# Altium footprint library Package_TO_SOT_SMD.PcbLib: 11 footprints
Each footprint in its own frame and in the unit in brackets; x right, y up, seen from the top. Pads: shape width x height; smd on the part's side, far side on the other; paste and mask are expansions set on the pad; w line width, h text height; cw(c..) or ccw(c..) is an arc to the next point about the centre after c.
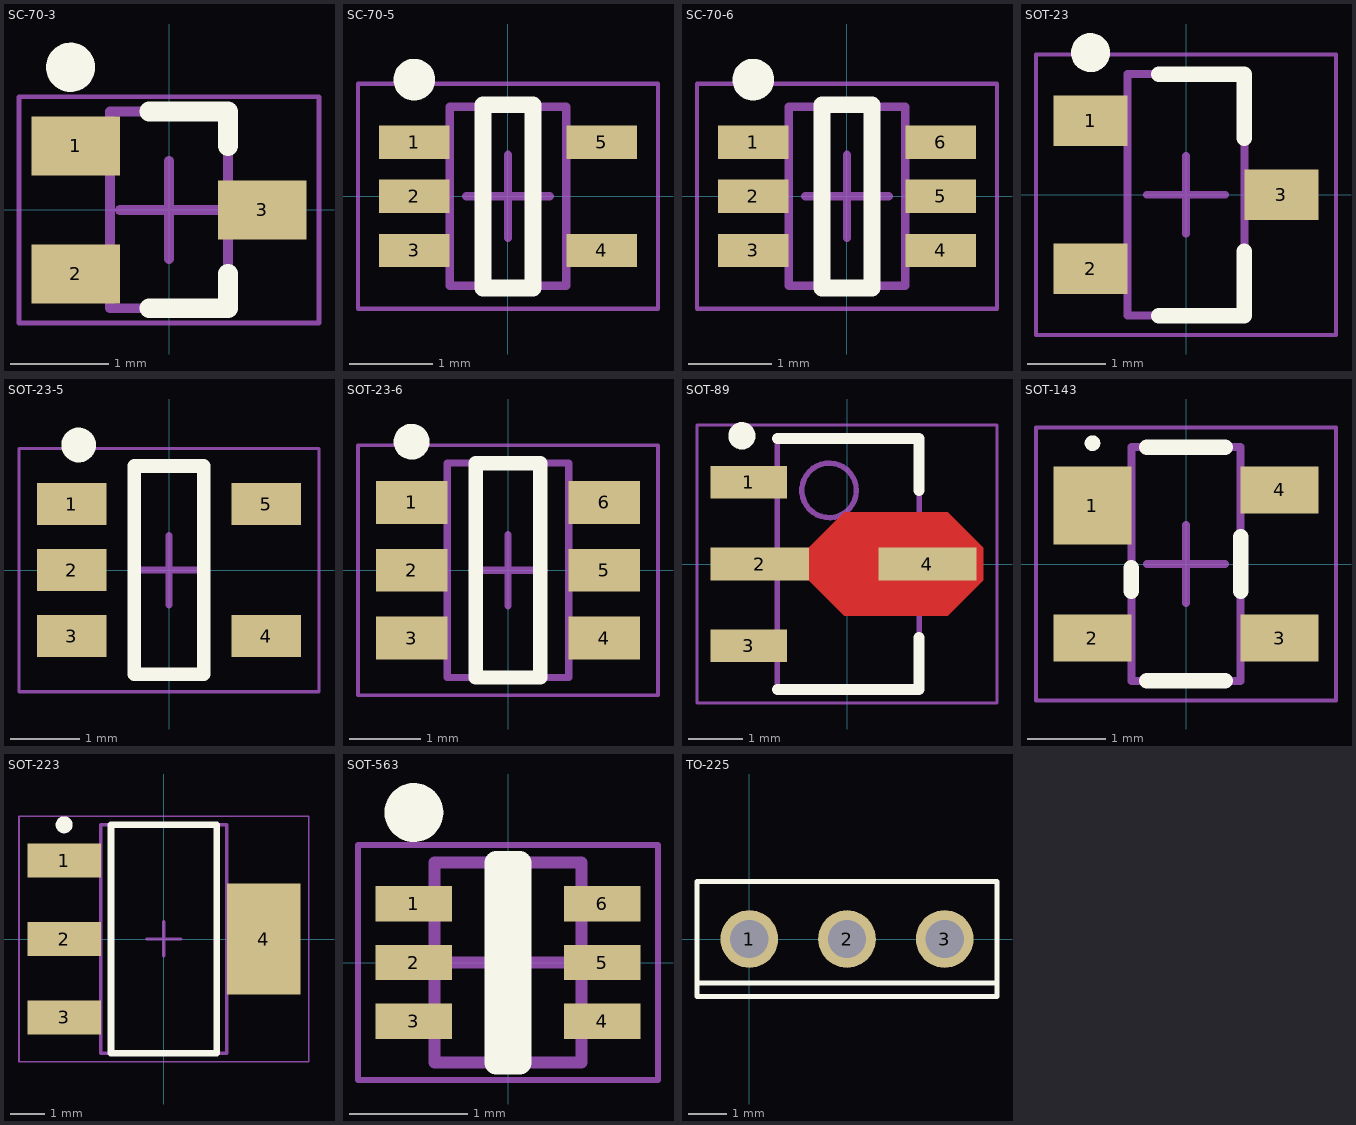
[diagram p0: the footprints below, top view; thin cyan lines are the x and y axes]

## SC-70-3 [mm] "SOTFL, 3-Leads, Body 2.00x2.20mm, Pitch 0.65mm, IPC Medium Density"
height 0.8
pads (3):
  rect 0.9x0.6 smd: 1(-0.95,0.65) 2(-0.95,-0.65) 3(0.95,0)
Top Overlay:
  circle w0.25: c-1,1.45 r0.125
  lines w0.2: -0.2,-1 0.6,-1 0.6,-0.65 ; -0.2,1 0.6,1 0.6,0.65
Mechanical 13:
  lines w0.1: -0.6,-1 -0.6,1 0.6,1 0.6,-1 -0.6,-1
Mechanical 15:
  lines w0.05: -1.525,-1.15 -1.525,1.15 1.525,1.15 1.525,-1.15 -1.525,-1.15
  lines w0.1: -0.5,0 0.5,0 ; 0,-0.5 0,0.5
3D body "SOTFL65P220X80-3N.step": height 0.8, standoff 0, extent -1.1,-0.998 1.1,0.998

## SC-70-5 [mm] "SOT23, 5-Leads, Body 2.00x2.10mm, Pitch 0.65mm, IPC Medium Density"
height 1.1
pads (5):
  rect 0.85x0.4 smd: 1(-1.125,0.65) 2(-1.125,0) 3(-1.125,-0.65) 4(1.125,-0.65) 5(1.125,0.65)
Top Overlay:
  circle w0.25: c-1.125,1.4 r0.125
  lines w0.2: -0.3,-1.1 -0.3,1.1 0.3,1.1 0.3,-1.1 -0.3,-1.1
Mechanical 13:
  lines w0.1: -0.7,-1.075 0.7,-1.075 0.7,1.075 -0.7,1.075 -0.7,-1.075
Mechanical 15:
  lines w0.05: -1.8,-1.35 1.8,-1.35 1.8,1.35 -1.8,1.35 -1.8,-1.35
  lines w0.1: -0.5,0 0.5,0 ; 0,-0.5 0,0.5
3D body "SOT65P210X110-5N.step": height 1.1, standoff 0, extent -1.2,-1.075 1.2,1.075

## SC-70-6 [mm] "SOT23, 6-Leads, Body 2.00x2.10mm, Pitch 0.65mm, IPC Medium Density"
height 1.1
pads (6):
  rect 0.85x0.4 smd: 1(-1.125,0.65) 2(-1.125,0) 3(-1.125,-0.65) 4(1.125,-0.65) 5(1.125,0) 6(1.125,0.65)
Top Overlay:
  circle w0.25: c-1.125,1.4 r0.125
  lines w0.2: -0.3,-1.1 -0.3,1.1 0.3,1.1 0.3,-1.1 -0.3,-1.1
Mechanical 13:
  lines w0.1: -0.7,-1.075 0.7,-1.075 0.7,1.075 -0.7,1.075 -0.7,-1.075
Mechanical 15:
  lines w0.05: -1.8,-1.35 1.8,-1.35 1.8,1.35 -1.8,1.35 -1.8,-1.35
  lines w0.1: -0.5,0 0.5,0 ; 0,-0.5 0,0.5
3D body "SOT65P210X110-6N.step": height 1.1, standoff 0, extent -1.2,-1.075 1.2,1.075

## SOT-23 [mm] "SOT23, 3-Leads, Body 2.90x2.45mm, Pitch 0.95mm, IPC Medium Density"
height 1.3
pads (3):
  rect 0.95x0.65 smd: 1(-1.225,0.95) 2(-1.225,-0.95) 3(1.225,0)
Top Overlay:
  circle w0.25: c-1.225,1.825 r0.125
  lines w0.2: -0.35,-1.55 0.75,-1.55 0.75,-0.725 ; -0.35,1.55 0.75,1.55 0.75,0.725
Mechanical 13:
  lines w0.1: -0.75,-1.55 0.75,-1.55 0.75,1.55 -0.75,1.55 -0.75,-1.55
Mechanical 15:
  lines w0.05: -1.925,-1.8 1.925,-1.8 1.925,1.8 -1.925,1.8 -1.925,-1.8
  lines w0.1: -0.5,0 0.5,0 ; 0,-0.5 0,0.5
3D body "CircuitWorks-SOT-23.STEP": height 1.05, standoff -0.05, extent -1.25,-1.5 1.25,1.5

## SOT-23-5 [mm] "SOT23, 5-Leads, Body 2.90x2.45mm, Pitch 0.95mm, IPC Medium Density"
height 1.1
pads (5):
  rect 1x0.6 smd: 1(-1.4,0.95) 2(-1.4,0) 3(-1.4,-0.95) 4(1.4,-0.95) 5(1.4,0.95)
Top Overlay:
  circle w0.25: c-1.3,1.8 r0.125
  lines w0.2: -0.5,-1.5 0.5,-1.5 0.5,1.5 -0.5,1.5 -0.5,-1.5
Mechanical 15:
  lines w0.05: -2.159,-1.75 -2.159,1.75 2.159,1.75 2.159,-1.75 -2.159,-1.75
  lines w0.1: -0.5,0 0.5,0 ; 0,-0.5 0,0.5
3D body "mic5504-3_3ym5-tr.stp": height 1.18, standoff 0.01, extent -1.4,-1.494 1.4,1.494

## SOT-23-6 [mm] "SOT23, 6-Leads, Body 2.90x2.80mm, Pitch 0.95mm, IPC Medium Density"
height 1.3
pads (6):
  rect 1x0.6 smd: 1(-1.35,0.95) 2(-1.35,0) 3(-1.35,-0.95) 4(1.35,-0.95) 5(1.35,0) 6(1.35,0.95)
Top Overlay:
  circle w0.25: c-1.35,1.8 r0.125
  lines w0.2: -0.45,-1.5 -0.45,1.5 0.45,1.5 0.45,-1.5 -0.45,-1.5
Mechanical 13:
  lines w0.1: -0.85,-1.5 0.85,-1.5 0.85,1.5 -0.85,1.5 -0.85,-1.5
Mechanical 15:
  lines w0.05: -2.1,-1.75 2.1,-1.75 2.1,1.75 -2.1,1.75 -2.1,-1.75
  lines w0.1: -0.5,0 0.5,0 ; 0,-0.5 0,0.5
3D body "SOT95P280X130-6N.step": height 1.3, standoff 0, extent -1.5,-1.5 1.5,1.5

## SOT-89 [mm] "SOT89, 3-Leads, Body 4.50x2.45mm, Pitch 1.50mm, Lead Span 4.1mm, IPC Medium Density"
height 1.6
pads (4):
  rect 1.4x0.6 smd: 1(-1.8,1.5) 3(-1.8,-1.5)
  rect 1.8x0.6 smd: 2(-1.6,0) 4(1.473,0)
Top Layer:
  region: -0.762,0.238 -0.05,0.95 1.85,0.95 2.5,0.3 2.5,-0.3 1.85,-0.95 -0.05,-0.95 -0.762,-0.238
Top Overlay:
  circle w0.25: c-1.927,2.35 r0.125
  lines w0.2: -1.278,-2.3 1.322,-2.3 1.322,-1.35 ; -1.278,2.3 1.322,2.3 1.322,1.35
Mechanical 13:
  circle w0.1: c-0.327,1.35 r0.5
  lines w0.1: -1.278,-2.3 -1.278,2.3 1.322,2.3 1.322,-2.3 -1.278,-2.3
Mechanical 15:
  lines w0.05: -2.75,-2.55 -2.75,2.55 2.75,2.55 2.75,-2.55 -2.75,-2.55
  lines w0.1: -0.477,0 0.523,0 ; 0.022,-0.5 0.022,0.5
3D body "SOT89-150P410X160-3N.step": height 1.6, standoff 0, extent -2.2,-2.3 1.85,2.3

## SOT-143 [mm] "SOT143, 4-Leads, Body 2.90x2.37mm, Pitch 1.90mm, IPC Medium Density"
height 1.2
pads (4):
  rect 1x1 smd: 1(-1.2,0.75)
  rect 1x0.6 smd: 2(-1.2,-0.95) 3(1.2,-0.95) 4(1.2,0.95)
Top Overlay:
  circle w0.1: c-1.2,1.55 r0.05
  lines w0.2: -0.7,-0.35 -0.7,-0.05 ; -0.5,-1.5 0.5,-1.5 ; -0.5,1.5 0.5,1.5 ; 0.7,-0.35 0.7,0.35
Mechanical 13:
  lines w0.1: -0.7,-1.5 -0.7,1.5 0.7,1.5 0.7,-1.5 -0.7,-1.5
Mechanical 15:
  lines w0.05: -1.925,-1.75 -1.925,1.75 1.925,1.75 1.925,-1.75 -1.925,-1.75
  lines w0.1: -0.5,0 0.5,0 ; 0,-0.5 0,0.5
3D body "SOT190P237X120-4N.step": height 1.2, standoff 0.01, extent -1.179,-1.5 1.179,1.5

## SOT-223 [mm] "SOT223, 4-Leads, Body 6.50x7.00mm (avg), Pitch 2.30mm, IPC Medium Density"
height 1.8
pads (4):
  rect 2.15x1 smd: 1(-2.925,2.3) 2(-2.925,0) 3(-2.925,-2.3)
  rect 2.15x3.25 smd: 4(2.925,0)
Top Overlay:
  circle w0.25: c-2.925,3.35 r0.125
  lines w0.2: -1.55,-3.35 -1.55,3.35 1.55,3.35 1.55,-3.35 -1.55,-3.35
Mechanical 13:
  lines w0.1: -1.85,-3.35 -1.85,3.35 1.85,3.35 1.85,-3.35 -1.85,-3.35
Mechanical 15:
  lines w0.05: -4.25,-3.6 -4.25,3.6 4.25,3.6 4.25,-3.6 -4.25,-3.6
  lines w0.1: -0.5,0 0.5,0 ; 0,-0.5 0,0.5
3D body "SOT230P700X180-4N.step": height 1.8, standoff 0, extent -3.5,-3.35 3.5,3.35

## SOT-563 [mm] "SOTFL, 6-Leads, Body 1.70x1.70mm, Pitch 0.50mm, IPC Medium Density"
height 0.6
pads (6):
  rect 0.65x0.3 smd: 1(-0.8,0.5) 2(-0.8,0) 3(-0.8,-0.5) 4(0.8,-0.5) 5(0.8,0) 6(0.8,0.5)
Top Overlay:
  circle w0.25: c-0.8,1.275 r0.125
  lines w0.2: -0.1,-0.85 0.1,-0.85 0.1,0.85 -0.1,0.85 -0.1,-0.85
Mechanical 13:
  lines w0.1: -0.625,-0.85 -0.625,0.85 0.625,0.85 0.625,-0.85 -0.625,-0.85
Mechanical 15:
  lines w0.05: -1.275,-1 -1.275,1 1.275,1 1.275,-1 -1.275,-1
  lines w0.1: -0.5,0 0.5,0 ; 0,-0.5 0,0.5
3D body "SOTFL50P170X60-6N.step": height 0.6, standoff 0, extent -0.85,-0.848 0.85,0.848

## TO-225 [mm]
pads (3):
  round 1.5 hole 1: 1(0,0) 2(2.54,0) 3(5.08,0)
Top Overlay:
  lines w0.127: -1.36,-1.143 6.44,-1.143 ; -1.36,-1.5 6.44,-1.5 6.44,1.5 -1.36,1.5 -1.36,-1.5